# EAGLE library part ADA4610-2 (library ada4610-2)
ADA4610-2
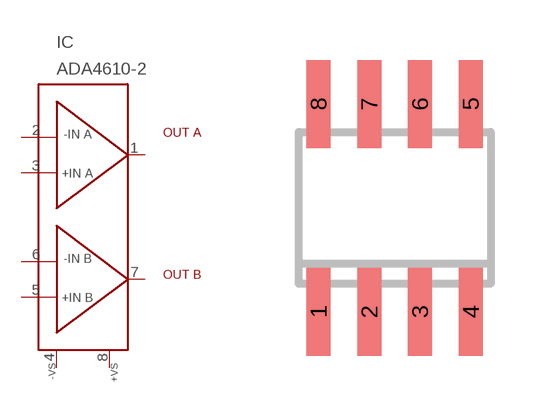
[diagram p0: symbol with the pads of SO8; footprint SO8]

Designator prefix IC

## ADA4610-2R (RS: 807-1631)  [SO8]
1  OUTA  out
2  INA-  in
3  INA+  in
4  -VS  in
5  INB+  in
6  INB-  in
7  OUTB  out
8  +VS  in

## Footprint SO8 (pad centres in mm)
8-Lead Small Outline IC (SO-8) Source: http://www.analog.com/UploadedFiles/Data_Sheets/703465986AD8611_2_0.pdf
smd 0.6 x 2.2: 1 -1.905,-2.6; 2 -0.635,-2.6; 3 0.635,-2.6; 4 1.905,-2.6; 5 1.905,2.6; 6 0.635,2.6; 7 -0.635,2.6; 8 -1.905,2.6